# Altium footprint library SW_TACTILE_SPST-NO.PcbLib: 1 footprints
Each footprint in its own frame and in the unit in brackets; x right, y up, seen from the top. Pads: shape width x height; smd on the part's side, far side on the other; paste and mask are expansions set on the pad; w line width, h text height; cw(c..) or ccw(c..) is an arc to the next point about the centre after c.
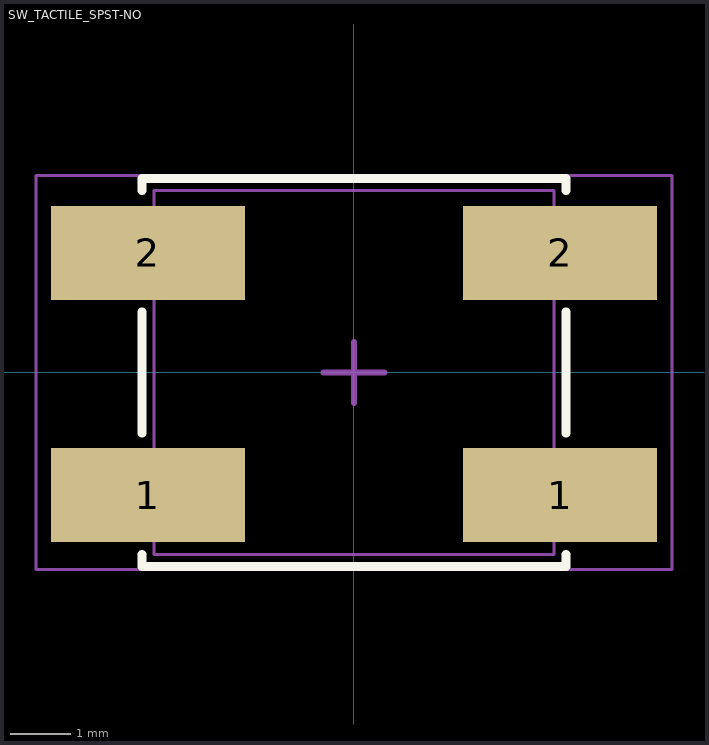
[diagram p0: the footprint, top view; thin cyan lines are the x and y axes]

## SW_TACTILE_SPST-NO [mm] "SWITCH TACTILE SPST-NO 0.02A 15V"
pads (4):
  rect 3.2x1.55 smd: 1(-3.4,-2.025) 1(3.4,-2.025) 2(-3.4,1.975) 2(3.4,1.975)
Top Overlay:
  lines w0.15: -3.5,-3 -3.5,-3.2 3.5,-3.2 3.5,-3 ; -3.5,-1 -3.5,1 ; -3.5,3 -3.5,3.2 3.5,3.2 3.5,3 ; 3.5,-1 3.5,1
Top Assembly:
  lines w0.05: -3.3,-3 3.3,-3 3.3,3 -3.3,3 -3.3,-3
  text ".designator" at -4.998,-0.333 h1
Top Courtyard:
  lines w0.05: -5.25,-3.25 5.25,-3.25 5.25,3.25 -5.25,3.25 -5.25,-3.25
  lines w0.1: -0.5,0 0.5,0 ; 0,-0.5 0,0.5
3D body "SW_TACTILE_SPST-NO.step": height 3.1, standoff 0, extent -3.3,-3 3.3,3